# EAGLE library part MIC2297 (library ModernDevice#1)
40V PWM Boost Regulator White LED Driver Source: http://www.micrel.com/_PDF/mic2297.pdf
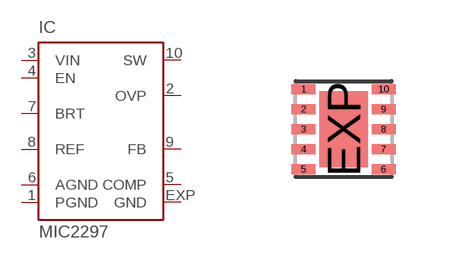
[diagram p81: symbol with the pads of MLF10; footprint MLF10]

Designator prefix IC

## MIC2297 (MPN: MIC2297-38YML TR; OC_FARNELL: 1663107; OC_NEWARK: 11R3489)  [MLF10]
1  PGND  in
2  OVP  in
3  VIN  in
4  EN  in
5  COMP  pas
6  AGND  in
7  BRT  in
8  REF  in
9  FB  in
10  SW  oc
EXP  GND  in

## Footprint MLF10 (pad centres in mm)
MLF 10 (ML) 2.5 x 2.5 mm, 10-Pin Package Source: Source: http://www.micrel.com/_PDF/mic2297.pdf
smd 0.6 x 0.25: 1 -1,1; 2 -1,0.5; 3 -1,0; 4 -1,-0.5; 5 -1,-1; 6 1,-1; 7 1,-0.5; 8 1,0; 9 1,0.5; 10 1,1
smd 1.2 x 1.9: EXP 0,0